# Altium schematic symbol library Schlib1.SchLib: 8 symbols
Pins are listed as number, name and electrical type; pins without a type are passive.

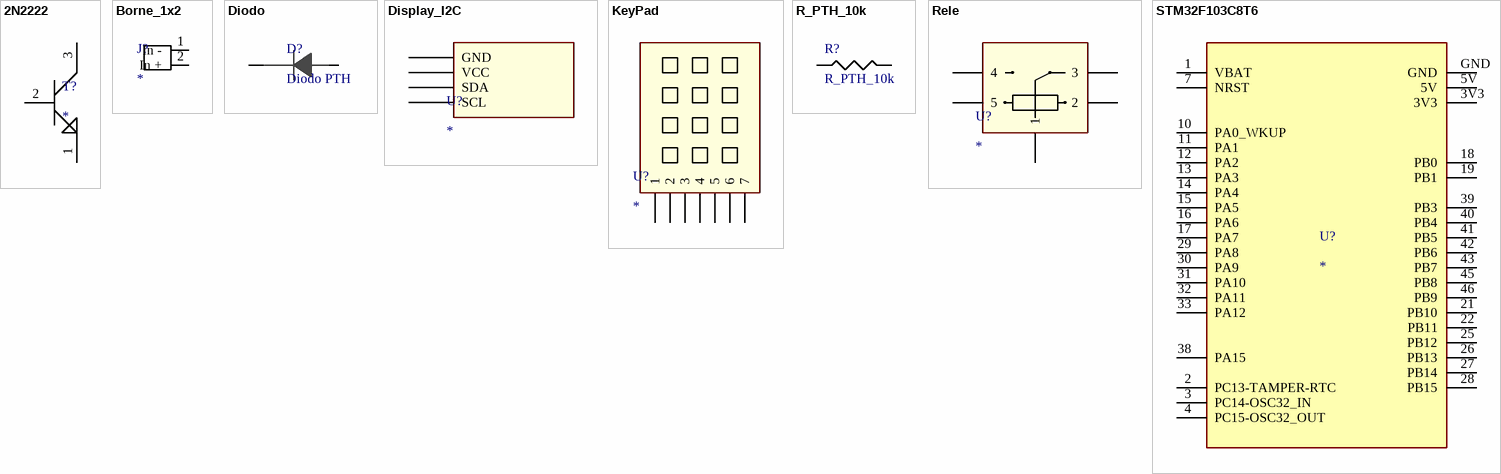
[diagram p0: symbols 2N2222 to STM32F103C8T6]

## 2N2222
designator T?
footprint 2N2222
pins: 1, 2, 3

## Borne_1x2
designator J?
footprint Borne1x2
pins: 1 In -, 2 In +

## Diodo
designator D?, comment Diodo PTH
footprint DIODO
pins: 1, 2

## Display_I2C
designator U?
Display_I2C
footprint LCD_I2C
pins: 1 GND, 2 VCC, 3 SDA, 4 SCL

## KeyPad
designator U?
KeyPad
footprint KeyPad
pins: 1, 2, 3, 4, 5, 6, 7

## R_PTH_10k
designator R?
footprint R_PTH
pins: 1, 2

## Rele
designator U?
Rele 12V
footprint Rele
pins: 1, 2, 3, 4, 5

## STM32F103C8T6
designator U?
ARM® Cortex®-M3 STM32F1 Microcontroller IC 32-Bit 72MHz 64KB (64K x 8) FLASH 48-LQFP (7x7); MF: STMicroelectronics; MP: STM32F103C8T6; SnapEDA_Link: https://www.snapeda.com/parts/STM32F103C8T6/STMicroelectronics/view-part/?ref=snap; Package: LQFP-48 STMicroelectronics; Value: *; Check_prices: https://www.snapeda.com/parts/STM32F103C8T6/STMicroelectronics/view-part/?ref=eda
footprint STM32
pins: 1 VBAT, 2 PC13-TAMPER-RTC, 3 PC14-OSC32_IN, 3V3 (power), 4 PC15-OSC32_OUT, 5V (power), 7 NRST, 10 PA0_WKUP, 11 PA1, 12 PA2, 13 PA3, 14 PA4, 15 PA5, 16 PA6, 17 PA7, 18 PB0, 19 PB1, 21 PB10, 22 PB11, 25 PB12, 26 PB13, 27 PB14, 28 PB15, 29 PA8, 30 PA9, 31 PA10, 32 PA11, 33 PA12, 38 PA15, 39 PB3, 40 PB4, 41 PB5, 42 PB6, 43 PB7, 45 PB8, 46 PB9, GND (power)